# EAGLE library part 750318330 (library WE-OLSTM)
WE-OLSTM Offline Flyback Transformers Characteristics Nominal input voltage: 85–265 VAC (120–375 VDC) Operating temperature: –40 °C to +125 °C Isolation voltage: 2 kVAC up to 5 kVAC Multiple output options Options for fixed frequency or quasi-resonant mode operation Most products meet reinforced insulation Applications Offline-switch mode power supplies Especially designed for several ICs from STMicroelectronics Auxiliary power supply Home appliances Consumer electronics <https://www.we-online.com/components/media/o781306v209%20FAMILY-MID-OLSTM.jpg> Details see: www.we-online.com/en/components/products/WE-OLSTM <www.we-online.com/en/components/products/WE-OLSTM/?utm_source=eagle_model&utm_medium=description_link&utm_campaign=eisos_eagle> Created by Leviosa 2024-04-15 2024(C) Wurth Elektronik
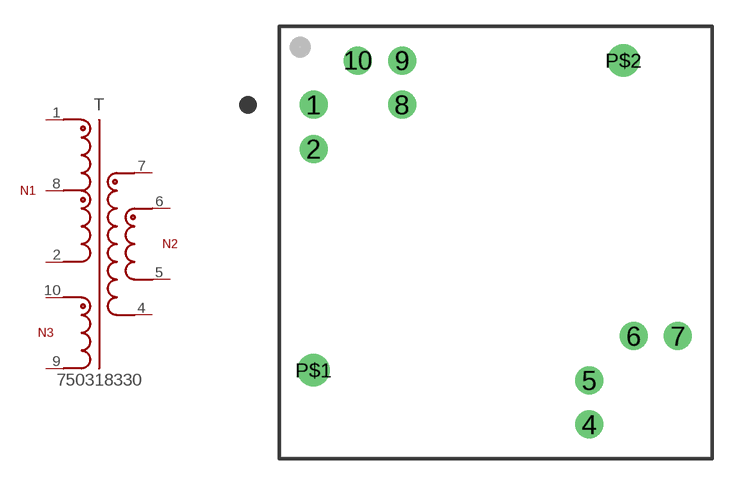
[diagram p22: symbol with the pads of WE-OLSTM_RM8_750318330; footprint WE-OLSTM_RM8_750318330]

Designator prefix T

## 750318330 (DATASHEET-URL: https://www.we-online.com/redexpert/spec/750318330?ae; FSWITCH: 56 - 138kHz; IOUT1: 2250mA; ISAT: 4800mA; L: 0.15mH; MOUNT: THT; N: 5:1:3.5; PART-NUMBER: 750318330; SIZE: RM8; VALUE: 750318330; VAUX: 12V; VIN: 120 - 375 V (AC); VOUT1: 12V; VT: 4000V(AC))  [WE-OLSTM_RM8_750318330]
1  1  pas
2  2  pas
4  4  pas
5  5  pas
6  6  pas
7  7  pas
8  8  pas
9  9  pas
10  10  pas

## Footprint WE-OLSTM_RM8_750318330 (pad centres in mm)
WE-OLSTM Offline Flyback Transformers for STMicroelectronics Size: RM8, THT,9Pins LXWXH=24.64X24.64X17.32mm
drill 1.07: 1 -10.45,7.91; 2 -10.45,5.37; 4 5.37,-10.45; 5 5.37,-7.91; 6 7.91,-5.37; 7 10.45,-5.37; 8 -5.37,7.91; 9 -5.37,10.45; 10 -7.91,10.45
drill 1.25: P$1 -10.45,-7.33; P$2 7.33,10.45